# Altium footprint library Switch.PcbLib: 23 footprints (part 1 of 2)
Each footprint in its own frame and in the unit in brackets; x right, y up, seen from the top. Pads: shape width x height; smd on the part's side, far side on the other; paste and mask are expansions set on the pad; w line width, h text height; cw(c..) or ccw(c..) is an arc to the next point about the centre after c.
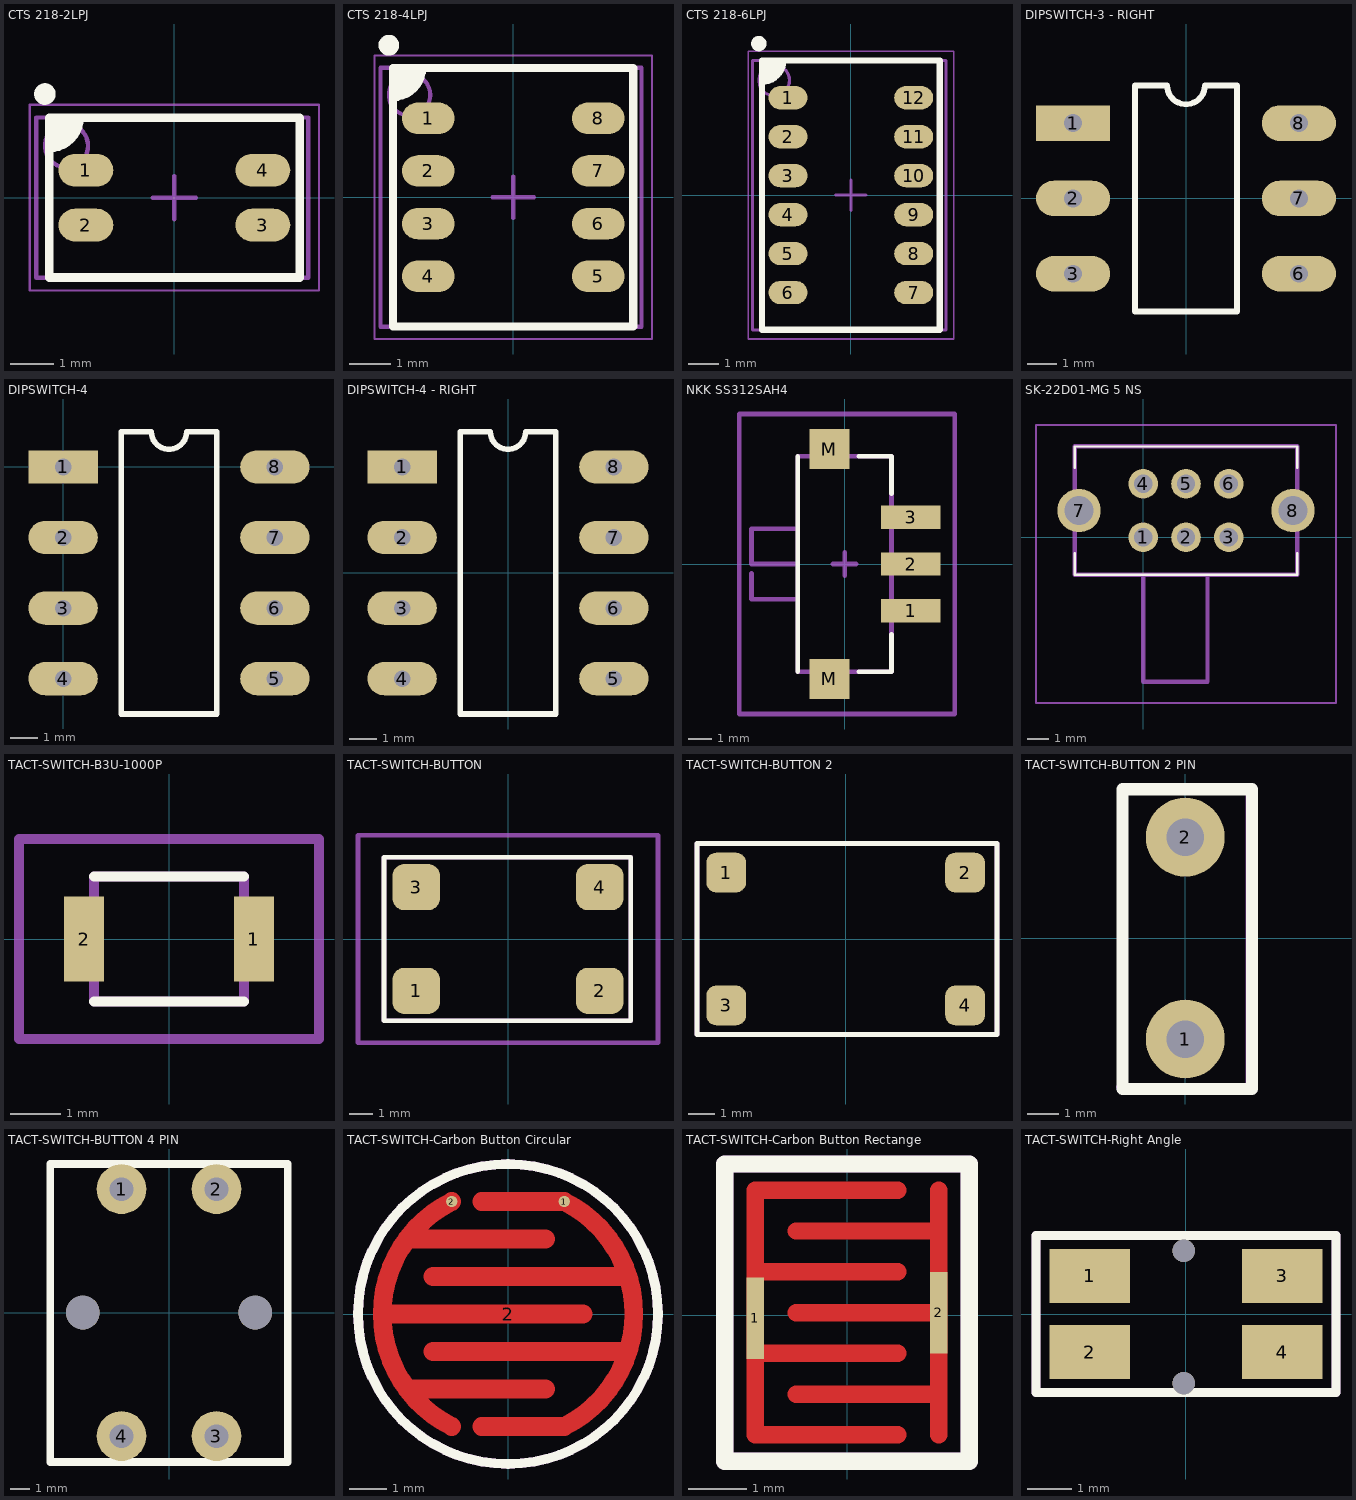
[diagram p0: the footprints below, top view; thin cyan lines are the x and y axes]

## CTS 218-2LPJ [mm] "DIP, 2 POS, Body 3.71x6.05mm, Pitch 1.27mm, IPC Medium Density"
height 2.7
pads (4):
  oval 1.27x0.76 smd: 1(-2.05,0.635) 2(-2.05,-0.635) 3(2.05,-0.635) 4(2.05,0.635)
Top Overlay:
  circle w0.25: c-3,2.4 r0.125
  region: -2.9,1.85 -2.9,1.1 -2.7,1.1 -2.2,1.6 -2.2,1.85
  lines w0.2: -2.9,1.15 ccw(c-2.9,1.85) -2.2,1.85 ; -2.9,-1.85 2.9,-1.85 2.9,1.85 -2.9,1.85 -2.9,-1.85
Top Component Outline:
  circle w0.1: c-2.5,1.2 r0.5
  lines w0.1: -3.2,-1.855 -3.2,1.855 3.1,1.855 3.1,-1.855 -3.2,-1.855
Top Courtyard:
  lines w0.05: -3.35,-2.15 -3.35,2.15 3.35,2.15 3.35,-2.15 -3.35,-2.15
  lines w0.1: -0.5,0 0.5,0 ; 0,-0.5 0,0.5
3D body "CTS-218-2LPSTJ.STEP": height 2.71, standoff 0, extent -3.155,-1.855 3.155,1.855

## CTS 218-4LPJ [mm] "DIP, 6 POS, Body 8.79x6.05mm, Pitch 1.27mm, IPC Medium Density"
height 2.7
pads (8):
  oval 1.27x0.76 smd: 1(-2.05,1.905) 2(-2.05,0.635) 3(-2.05,-0.635) 4(-2.05,-1.905) 5(2.05,-1.905) 6(2.05,-0.635) 7(2.05,0.635) 8(2.05,1.905)
Top Overlay:
  circle w0.25: c-3,3.67 r0.125
  region: -2.9,3.12 -2.9,2.37 -2.7,2.37 -2.2,2.87 -2.2,3.12
  lines w0.2: -2.9,2.42 ccw(c-2.9,3.12) -2.2,3.12 ; -2.9,-3.12 2.9,-3.12 2.9,3.12 -2.9,3.12 -2.9,-3.12
Top Component Outline:
  circle w0.1: c-2.5,2.47 r0.5
  lines w0.1: -3.2,-3.125 -3.2,3.125 3.1,3.125 3.1,-3.125 -3.2,-3.125
Top Courtyard:
  lines w0.05: -3.35,-3.42 -3.35,3.42 3.35,3.42 3.35,-3.42 -3.35,-3.42
  lines w0.1: -0.5,0 0.5,0 ; 0,-0.5 0,0.5
3D body "CTS-218-4LPSTJ.STEP": height 2.71, standoff 0, extent -3.155,-3.125 3.155,3.125

## CTS 218-6LPJ [mm] "DIP, 4 POS, Body 6.25x6.05mm, Pitch 1.27mm, IPC Medium Density"
height 2.7
pads (12):
  oval 1.27x0.76 smd: 1(-2.05,3.175) 2(-2.05,1.905) 3(-2.05,0.635) 4(-2.05,-0.635) 5(-2.05,-1.905) 6(-2.05,-3.175) 7(2.05,-3.175) 8(2.05,-1.905) 9(2.05,-0.635) 10(2.05,0.635) 11(2.05,1.905) 12(2.05,3.175)
Top Overlay:
  circle w0.25: c-3,4.94 r0.125
  region: -2.9,4.39 -2.9,3.64 -2.7,3.64 -2.2,4.14 -2.2,4.39
  lines w0.2: -2.9,3.69 ccw(c-2.9,4.39) -2.2,4.39 ; -2.9,-4.39 -2.9,4.39 2.9,4.39 2.9,-4.39 -2.9,-4.39
Top Component Outline:
  circle w0.1: c-2.5,3.74 r0.5
  lines w0.1: -3.2,-4.395 3.1,-4.395 3.1,4.395 -3.2,4.395 -3.2,-4.395
Top Courtyard:
  lines w0.05: -3.35,-4.69 3.35,-4.69 3.35,4.69 -3.35,4.69 -3.35,-4.69
  lines w0.1: -0.5,0 0.5,0 ; 0,-0.5 0,0.5
3D body "CTS-218-6LPSTJ.STEP": height 2.71, standoff 0, extent -3.155,-4.395 3.155,4.395

## DIPSWITCH-3 - RIGHT [mm]
pads (6):
  rect 2.5x1.2 hole 0.6: 1(-3.81,2.54)
  oval 2.5x1.2 hole 0.6: 2(-3.81,0) 3(-3.81,-2.54) 6(3.81,-2.54) 7(3.81,0) 8(3.81,2.54)
Top Overlay:
  lines w0.2: -1.725,-3.81 -1.725,3.81 -0.635,3.81 ccw(c0,3.81) 0.635,3.81 1.725,3.81 1.725,-3.81 -1.725,-3.81
3D body "DIPSWITCH RIGHT 3.stp": height 10.19, standoff -3.21, extent -7.2,-4.56 5.4,4.62

## DIPSWITCH-4 [mm]
pads (8):
  rect 2.5x1.2 hole 0.6: 1(0,0)
  oval 2.5x1.2 hole 0.6: 2(0,-2.54) 3(0,-5.08) 4(0,-7.62) 5(7.62,-7.62) 6(7.62,-5.08) 7(7.62,-2.54) 8(7.62,0)
Top Overlay:
  lines w0.2: 2.085,-8.89 2.085,1.27 3.175,1.27 ccw(c3.81,1.27) 4.445,1.27 5.535,1.27 5.535,-8.89 2.085,-8.89
3D body "DIP SWITCH 4.STEP": height 8.14, standoff -3.5, extent -1.065,-9.945 8.715,2.395

## DIPSWITCH-4 - RIGHT [mm]
pads (8):
  rect 2.5x1.2 hole 0.6: 1(-3.81,3.81)
  oval 2.5x1.2 hole 0.6: 2(-3.81,1.27) 3(-3.81,-1.27) 4(-3.81,-3.81) 5(3.81,-3.81) 6(3.81,-1.27) 7(3.81,1.27) 8(3.81,3.81)
Top Overlay:
  lines w0.2: -1.725,-5.08 1.725,-5.08 1.725,5.08 0.635,5.08 cw(c0,5.08) -0.635,5.08 -1.725,5.08 -1.725,-5.08
3D body "DIPSWITCH RIGHT 4.stp": height 10.19, standoff -3.21, extent -7.2,-5.86 5.4,5.86

## NKK SS312SAH4 [mm]
height 2.9
pads (5):
  rect 2.55x1 smd: 1(2.825,-2) 2(2.825,0) 3(2.825,2)
  rect 1.7x1.7 smd: M(-0.65,-4.9) M(-0.65,4.9)
Top Overlay:
  lines w0.2: -2,-4.6 -2,4.6 ; 0.6,-4.6 2,-4.6 2,-3 ; 0.6,4.6 2,4.6 2,3
Mechanical 1:
  lines w0.2: -3.976,-0.4 -3.976,-1.5 -2,-1.5 ; -2,0 -3.976,0 -3.976,1.5 -2,1.5 ; -2,-4.6 -2,4.6 2,4.6 2,-4.6 -2,-4.6
Top Courtyard:
  lines w0.2: -0.5,0 0.5,0 ; 0,-0.5 0,0.5 ; -4.5,-6.4 -4.5,6.4 4.7,6.4 4.7,-6.4 -4.5,-6.4
3D body "NKK SS312SAH4.STEP": height 2.9, standoff -0.15, extent -3.976,-5.245 3.416,5.245

## SK-22D01-MG 5 NS [mm]
height 5
pads (8):
  round 1.381 hole 0.85: 1(0,0) 2(2,0) 3(4,0) 4(0,2.5) 5(2,2.5) 6(4,2.5)
  round 2.025 hole 1.35: 7(-3,1.25) 8(7,1.25)
Top Overlay:
  lines w0.1: -3.2,-0.75 -3.2,-1.75 7.2,-1.75 7.2,-0.75 ; -3.2,3.25 -3.2,4.25 7.2,4.25 7.2,3.25
Top Component Outline:
  lines w0.2: 0,-1.75 0,-6.75 3,-6.75 3,-1.75 ; -3.2,-1.75 7.2,-1.75 7.2,4.25 -3.2,4.25 -3.2,-1.75
Top Courtyard:
  lines w0.1: -5.012,-7.75 9.012,-7.75 9.012,5.25 -5.012,5.25 -5.012,-7.75
3D body "SK-22D01-MG 5 NS.stp": height 5.6, standoff -2.66, extent -3.505,-6.737 7.195,4.273

## TACT-SWITCH-B3U-1000P [mm]
pads (2):
  rect 0.8x1.7 smd: 1(1.7,0) 2(-1.7,0)
Top Overlay:
  lines w0.2: -1.5,-1.25 1.5,-1.25 ; -1.5,1.25 1.5,1.25
Top Component Outline:
  lines w0.2: -1.5,-1.25 1.5,-1.25 1.5,1.25 -1.5,1.25 -1.5,-1.25
Top Courtyard:
  lines w0.2: -3,-2 3,-2 3,2 -3,2 -3,-2
3D body "OMRON B3U-1000P.step": height 1.6, standoff 0, extent -2,-1.25 2,1.25

## TACT-SWITCH-BUTTON [mm]
pads (4):
  rrect50% 2.05x2 smd: 1(-3.975,-2.25) 2(3.975,-2.25) 3(-3.975,2.25) 4(3.975,2.25)
Top Overlay:
  lines w0.2: -5.375,-3.55 -5.375,3.55 5.325,3.55 5.325,-3.55 -5.375,-3.55
Top Component Outline:
  lines w0.2: -5.375,-3.55 5.325,-3.55 5.325,3.55 -5.375,3.55 -5.375,-3.55
Top Courtyard:
  lines w0.2: -6.5,-4.5 -6.5,4.5 6.5,4.5 6.5,-4.5 -6.5,-4.5
3D body "TactileButton3.step": height 4.3, standoff 0, extent -4.284,-3.15 4.139,3.05

## TACT-SWITCH-BUTTON 2 [mm]
pads (4):
  rrect50% 1.5x1.5 smd: 1(-4.5,2.5) 2(4.5,2.5) 3(-4.5,-2.5) 4(4.5,-2.5)
Top Overlay:
  lines w0.2: -5.6,-3.6 5.7,-3.6 5.7,3.6 -5.6,3.6 -5.6,-3.6
Top Courtyard:
  lines w0.2: -5.6,-3.6 5.7,-3.6 5.7,3.6 -5.6,3.6 -5.6,-3.6
3D body "TactileButton2.step": height 5, standoff 0, extent -4.9,-3.6 5.1,3.6

## TACT-SWITCH-BUTTON 2 PIN [mm]
pads (2):
  round 2.54 / inner round 1.2 / far side round 2.54 hole 1.2: 1(0,-3.25) 2(0,3.25)
Top Overlay:
  lines w0.4: -2.019,-4.855 -2.019,4.787 2.148,4.787 2.148,-4.855 -2.019,-4.855
Top Component Outline:
  lines w0.203: -2.019,-4.835 2.047,-4.835 2.047,4.736 -2.019,4.736 -2.019,-4.835
Top Courtyard:
  lines w0.254: -2.1,-4.8 2.1,-4.8 2.1,4.8 -2,4.8 -2,-4.7
3D body "button-mini.stp": height 4.26, standoff -0.3, extent -1.4,-3.1 1.6,2.9

## TACT-SWITCH-BUTTON 4 PIN [mm] "4pin EKO'da kullanılan Buton"
pads (6):
  round 2.54 hole 1.2: 1(-2.419,6.29) 2(2.419,6.29) 3(2.419,-6.29) 4(-2.419,-6.29)
  round 1.72 hole 1.72 mask+0: ""(-4.39,0) ""(4.39,0)
Top Overlay:
  lines w0.4: -6.049,-7.615 6.048,-7.615 6.048,7.571 -6.049,7.571 -6.049,-7.615
Top Courtyard:
  lines w0.203: -6.049,-7.715 -6.049,7.571 6.048,7.571 6.048,-7.715 0.517,-7.715 -6.049,-7.715
3D body "Button-4pin.stp": height 4.3, standoff -3.5, extent -6.009,-6.873 5.991,6.927

## TACT-SWITCH-Carbon Button Circular [mm] "Sillicone rubber keypad. 9 mm R"
pads (3):
  round 0.3 smd: 1(1.5,3) 2(-1.5,3)
  round 8 on Top Solder: 2(0,0)
Top Layer:
  lines w0.5: -3.35,0 2,0 ; -2.675,-2 1,-2 ; -2.675,2 1,2 ; -2,-1 3.2,-1 ; -2,1 3.2,1 ; -1.5,-3 cw(c0,0) -1.5,3 ; -0.7,-3 1.5,-3 ccw(c0,0) 1.5,3 -0.7,3
Top Overlay:
  circle w0.254: c0,0 r4
Bottom Dimensions:
  circle w0.254: c0,0 r4
Top Courtyard:
  circle w0.254: c0,0 r4

## TACT-SWITCH-Carbon Button Rectange [mm] "Sillicone rubber keypad. 5.1 x 4.2 mm"
pads (3):
  rect 0.3x1.4 smd: 1(-1.575,-0.05) 2(1.575,0.05)
  rect 4.2x5.1 on Top Solder: ""(0,0)
Top Layer:
  lines w0.3: -1.575,-0.65 0.875,-0.65 ; -1.575,0.75 0.875,0.75 ; -0.875,-1.35 1.575,-1.35 ; -0.875,0.05 1.575,0.05 ; -0.875,1.45 1.575,1.45 ; 0.875,-2.05 -1.575,-2.05 -1.575,2.15 0.875,2.15 ; 1.575,-2.05 1.575,2.15
Top Overlay:
  lines w0.3: -2.1,-2.5 -2.1,2.6 2.1,2.6 2.1,-2.5 -2.1,-2.5
Mechanical 1:
  lines w0.3: -2.1,-2.5 2.1,-2.5 2.1,2.6 -2.1,2.6 -2.1,-2.5
Bottom Dimensions:
  lines w0.3: -2.1,-2.5 2.1,-2.5 2.1,2.6 -2.1,2.6 -2.1,-2.5
Top Courtyard:
  lines w0.3: -2.1,-2.5 2.1,-2.5 2.1,2.6 -2.1,2.6 -2.1,-2.5

## TACT-SWITCH-Right Angle [mm] "Mando Tactile Button"
height 1.35
pads (4):
  rect 1.8x1.2 smd: 1(-2.15,0.85) 2(-2.15,-0.85) 3(2.15,0.85) 4(2.15,-0.85)
via -0.05,1.41 diameter 0.5 hole 0.5
via -0.05,-1.55 diameter 0.5 hole 0.5
Top Overlay:
  lines w0.2: -3.35,-1.75 3.35,-1.75 3.35,1.75 -3.35,1.75 -3.35,-1.75
Top Courtyard:
  lines w0.2: -3.35,-1.75 3.35,-1.75 3.35,1.75 -3.35,1.75 -3.35,-1.75
3D body "TactileButton.step": height 1.6, standoff -0.44, extent -2.8,-2.8 2.7,1.7